# EAGLE library part 40109 (library Skoba)
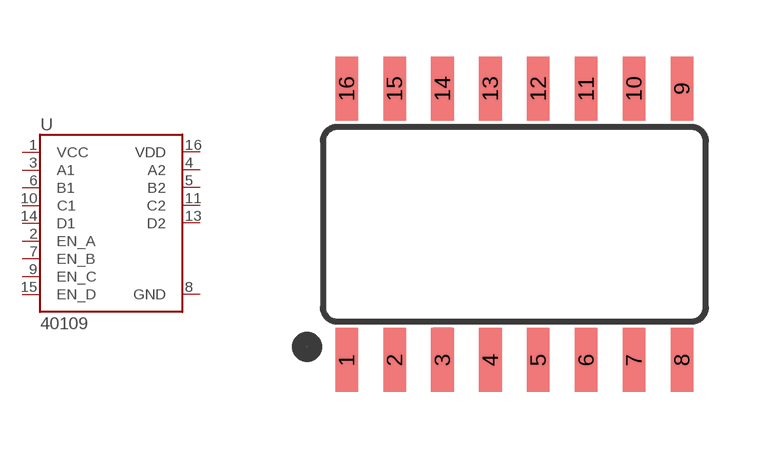
[diagram p40: symbol with the pads of SO16W; footprint SO16W]

Designator prefix U

## 40109SO16W  [SO16W]
1  VCC
2  EN_A
3  A1
4  A2
5  B2
6  B1
7  EN_B
8  GND
9  EN_C
10  C1
11  C2
13  D2
14  D1
15  EN_D
16  VDD

## Footprint SO16W (pad centres in mm)
smd 0.6 x 1.7: 1 -4.445,-3.6; 2 -3.175,-3.6; 3 -1.905,-3.6; 4 -0.635,-3.6; 5 0.635,-3.6; 6 1.905,-3.6; 7 3.175,-3.6; 8 4.445,-3.6; 9 4.445,3.6; 10 3.175,3.6; 11 1.905,3.6; 12 0.635,3.6; 13 -0.635,3.6; 14 -1.905,3.6; 15 -3.175,3.6; 16 -4.445,3.6